# Altium schematic symbol library PTS525SM15SMTR2LFS.SchLib: 1 symbol
Pins are listed as number, name and electrical type; pins without a type are passive.

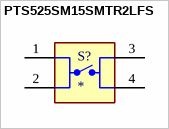
[diagram p0: symbol PTS525SM15SMTR2LFS]

## PTS525SM15SMTR2LFS
designator S?
Tactile Switch SPST-NO Top Actuated Surface Mount; MP: PTS525SM15SMTR2 LFS; MF: C&K; Package: Tactile Switch CK; SnapEDA_Link: https://www.snapeda.com/parts/PTS525SM15SMTR2%20LFS/C%2526K/view-part/?ref=snap; Purchase-URL: https://pricing.snapeda.com/search/part/PTS525SM15SMTR2 LFS/?ref=eda; Check_prices: https://www.snapeda.com/parts/PTS525SM15SMTR2%20LFS/C%2526K/view-part/?ref=eda; Availability: In Stock; Value: *; Price: None
footprint SW_PTS525SM15SMTR2LFS
pins: 1, 2, 3, 4